# Altium footprint library USB3.0_Standard_A_9P.PcbLib: 1 footprints
Each footprint in its own frame and in the unit in brackets; x right, y up, seen from the top. Pads: shape width x height; smd on the part's side, far side on the other; paste and mask are expansions set on the pad; w line width, h text height; cw(c..) or ccw(c..) is an arc to the next point about the centre after c.
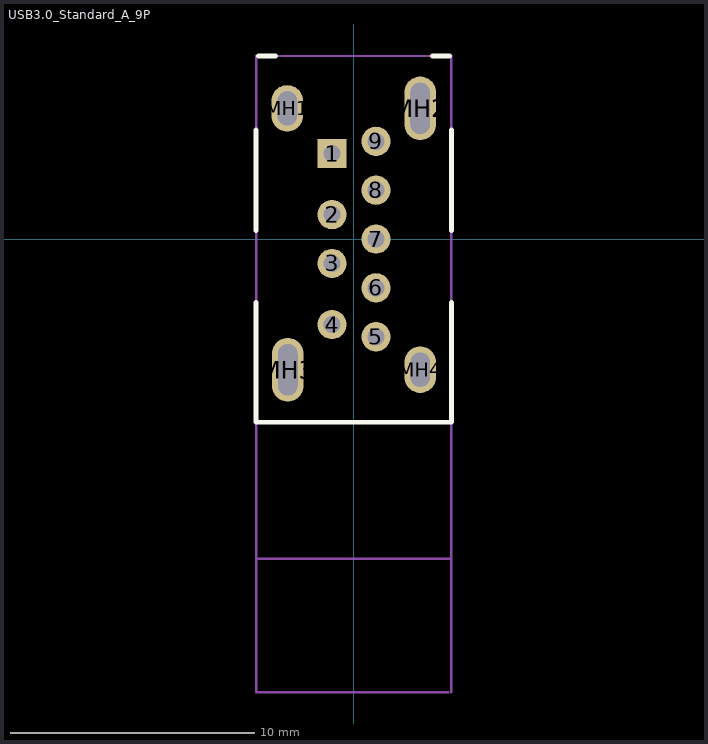
[diagram p0: the footprint, top view; thin cyan lines are the x and y axes]

## USB3.0_Standard_A_9P [mm] "USB - A，Tape & Reel (TR)，Through Hole, Right Angle, Vertical"
pads (13):
  rect 1.2x1.2 hole 0.7: 1(-0.89,3.5)
  rrect100% 1.2x1.2 hole 0.7: 2(-0.89,1) 3(-0.89,-1) 4(-0.89,-3.5) 5(0.91,-4) 6(0.91,-2) 7(0.91,0) 8(0.91,2) 9(0.91,4)
  oval 1.3x1.9 hole 0.8 slot 1.4 at 90 deg: MH1(-2.72,5.35)
  rrect100% 1.3x2.6 hole 0.8 slot 2.1 at 90 deg: MH2(2.72,5.35) MH3(-2.7,-5.35)
  rrect100% 1.3x1.9 hole 0.8 slot 1.4 at 90 deg: MH4(2.72,-5.35)
Top Overlay:
  lines w0.2: -4,-2.59 -4,-7.5 4,-7.5 4,-2.59 ; -4,0.35 -4,4.461 ; -3.903,7.5 -3.203,7.5 ; 3.223,7.5 3.923,7.5 ; 4,0.35 4,4.461
Mechanical 13:
  lines w0.1: -4,-13.08 -4,7.493 4,7.493 4,-13.08 -4,-13.08
Mechanical 15:
  lines w0.1: -4,-18.55 -4,7.5 ; -4,7.493 4,7.493 ; -3.937,-18.55 3.87,-18.55 ; 4,-18.55 4,7.5
3D body: height 0, standoff 0, extent -4.001,-18.551 4.001,7.501
3D body: height 14.85, standoff -3.36, extent -3.66,-18.588 3.66,7.112